# Altium footprint library REF1930AIDDCR.PcbLib: 3 footprints
Each footprint in its own frame and in the unit in brackets; x right, y up, seen from the top. Pads: shape width x height; smd on the part's side, far side on the other; paste and mask are expansions set on the pad; w line width, h text height; cw(c..) or ccw(c..) is an arc to the next point about the centre after c.
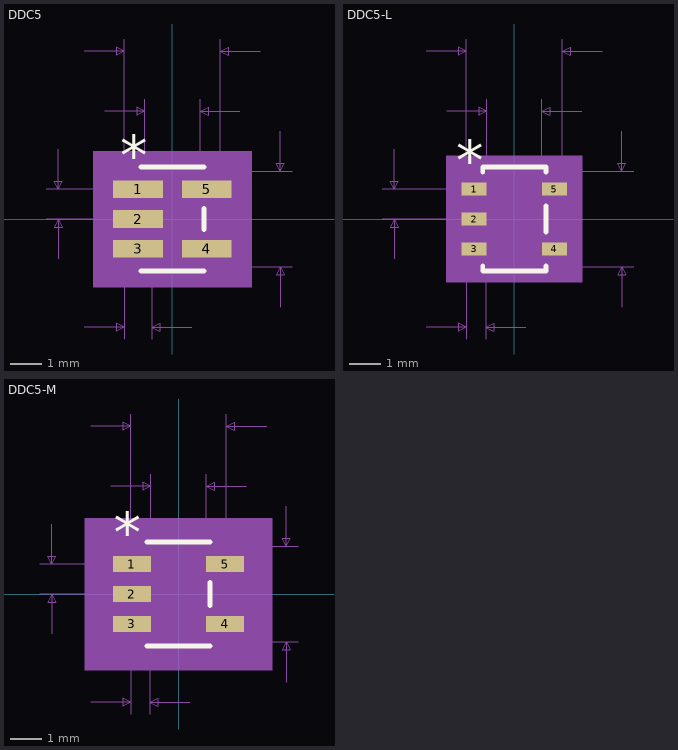
[diagram p0: the footprints below, top view; thin cyan lines are the x and y axes]

## DDC5 [mil]
pads (5):
  rect 62x22 smd paste+0 mask+0: 1(-43,37.4) 2(-43,0) 3(-43,-37.4) 4(43,-37.4) 5(43,37.4)
Top Overlay:
  lines w6: -39.5,-65 39.5,-65 ; -39.5,65 39.5,65 ; 39.5,-13.3 39.5,13.3
  text "*" at -65.5,54.4 h50
Mechanical 5:
  region: 99,-85 -99,-85 -99,85 99,85
Mechanical 7:
  lines w1: -158,0 -43,0 ; -158,37.4 -43,37.4 ; -143,-50 -143,0 ; -143,87.4 -143,37.4 ; -110,-135 -60,-135 ; -110,210 -60,210 ; -84.5,135 -34.5,135 ; -60,-150 -60,0 -60,225 ; -34.5,0 -34.5,150 ; -26,-150 -26,0 ; 0,-60 149.5,-60 ; 0,60 149.5,60 ; 24,-135 -26,-135 ; 34.5,0 34.5,150 ; 60,0 60,225 ; 84.5,135 34.5,135 ; 110,210 60,210 ; 134.5,-110 134.5,-60 ; 134.5,110 134.5,60 ; -143,0 -148,-10 -138,-10 -143,0 ; -143,37.4 -148,47.4 -138,47.4 -143,37.4 ; -60,-135 -70,-130 -70,-140 -60,-135 ; -60,210 -70,215 -70,205 -60,210 ; -34.5,135 -44.5,140 -44.5,130 -34.5,135 ; -26,-135 -16,-130 -16,-140 -26,-135 ; 34.5,135 44.5,140 44.5,130 34.5,135 ; 60,210 70,215 70,205 60,210 ; 134.5,-60 129.5,-70 139.5,-70 134.5,-60 ; 134.5,60 129.5,70 139.5,70 134.5,60
  text "Default Padstyle: RX62Y22D0T" at -350,-260 h50
  text "Pin 1 Padstyle: RX62Y22D0T" at -325,-320 h50
  text "Alt 1 Padstyle: OX60Y90D30P" at -337.5,-500 h50
  text "Alt 2 Padstyle: OX90Y60D30P" at -337.5,-560 h50
  text "0.069in/1.753mm" at -93.75,155 h25
  text "0.12in/3.048mm" at -87.5,230 h25
  text "0.12in/3.048mm" at 154.5,-12.5 h25
  text "0.037in/0.95mm" at -338,6.2 h25
  text "0.024in/0.61mm" at -130.5,-180 h25
Mechanical 13:
  lines w0: -12,60 ccw(c0,60) 12,60
  lines w1: -60,-47.4 -60,-27.4 -34.5,-27.4 -34.5,-47.4 -60,-47.4 ; -60,-10 -60,10 -34.5,10 -34.5,-10 -60,-10 ; -60,27.4 -60,47.4 -34.5,47.4 -34.5,27.4 -60,27.4 ; -34.5,-60 34.5,-60 34.5,60 -34.5,60 -34.5,-60 ; 34.5,-47.4 34.5,-27.4 60,-27.4 60,-47.4 34.5,-47.4 ; 34.5,27.4 34.5,47.4 60,47.4 60,27.4 34.5,27.4
  text "*" at -37,16.4 h50
Mechanical 15:
  region: 44.5,-70 -44.5,-70 -44.5,-58.4 -84,-58.4 -84,58.4 -44.5,58.4 -44.5,70 44.5,70 44.5,58.4 84,58.4 84,-58.4 44.5,-58.4
  lines w6: -84,-58.4 -44.5,-58.4 -44.5,-70 44.5,-70 44.5,-58.4 84,-58.4 84,58.4 44.5,58.4 44.5,70 -44.5,70 -44.5,58.4 -84,58.4 -84,-58.4
3D body: height 10, standoff 0, extent 0,0 10,10

## DDC5-L [mil]
pads (5):
  rect 31.5x16 smd paste+0 mask+0: 1(-50.25,37.4) 2(-50.25,0) 3(-50.25,-37.4) 4(50.25,-37.4) 5(50.25,37.4)
Top Overlay:
  lines w6: -39.5,-58.5 -39.5,-65 39.5,-65 39.5,-58.5 ; -39.5,58.5 -39.5,65 39.5,65 39.5,58.5 ; 39.5,-16.3 39.5,16.3
  text "*" at -72.75,48.4 h50
Mechanical 5:
  region: 85,-79 -85,-79 -85,79 85,79
Mechanical 7:
  lines w1: -165.25,0 -50.25,0 ; -165.25,37.4 -50.25,37.4 ; -150.25,-50 -150.25,0 ; -150.25,87.4 -150.25,37.4 ; -110,-135 -60,-135 ; -110,210 -60,210 ; -84.5,135 -34.5,135 ; -60,-150 -60,0 -60,225 ; -36,-150 -36,0 ; -34.5,0 -34.5,150 ; 0,-60 149.5,-60 ; 0,60 149.5,60 ; 14,-135 -36,-135 ; 34.5,0 34.5,150 ; 60,0 60,225 ; 84.5,135 34.5,135 ; 110,210 60,210 ; 134.5,-110 134.5,-60 ; 134.5,110 134.5,60 ; -150.25,0 -155.25,-10 -145.25,-10 -150.25,0 ; -150.25,37.4 -155.25,47.4 -145.25,47.4 -150.25,37.4 ; -60,-135 -70,-130 -70,-140 -60,-135 ; -60,210 -70,215 -70,205 -60,210 ; -36,-135 -26,-130 -26,-140 -36,-135 ; -34.5,135 -44.5,140 -44.5,130 -34.5,135 ; 34.5,135 44.5,140 44.5,130 34.5,135 ; 60,210 70,215 70,205 60,210 ; 134.5,-60 129.5,-70 139.5,-70 134.5,-60 ; 134.5,60 129.5,70 139.5,70 134.5,60
  text "Default Padstyle: RX31p5Y16D0T" at -375,-260 h50
  text "Pin 1 Padstyle: RX31p5Y16D0T" at -350,-320 h50
  text "Alt 1 Padstyle: OX60Y90D30P" at -337.5,-500 h50
  text "Alt 2 Padstyle: OX90Y60D30P" at -337.5,-560 h50
  text "0.069in/1.753mm" at -93.75,155 h25
  text "0.12in/3.048mm" at -87.5,230 h25
  text "0.12in/3.048mm" at 154.5,-12.5 h25
  text "0.037in/0.95mm" at -345.25,6.2 h25
  text "0.024in/0.61mm" at -135.5,-180 h25
Mechanical 13:
  lines w0: -12,60 ccw(c0,60) 12,60
  lines w1: -60,-47.4 -60,-27.4 -34.5,-27.4 -34.5,-47.4 -60,-47.4 ; -60,-10 -60,10 -34.5,10 -34.5,-10 -60,-10 ; -60,27.4 -60,47.4 -34.5,47.4 -34.5,27.4 -60,27.4 ; -34.5,-60 34.5,-60 34.5,60 -34.5,60 -34.5,-60 ; 34.5,-47.4 34.5,-27.4 60,-27.4 60,-47.4 34.5,-47.4 ; 34.5,27.4 34.5,47.4 60,47.4 60,27.4 34.5,27.4
  text "*" at -37,10.4 h50
Mechanical 15:
  region: 38.5,-64 -38.5,-64 -38.5,-49.4 -70,-49.4 -70,49.4 -38.5,49.4 -38.5,64 38.5,64 38.5,49.4 70,49.4 70,-49.4 38.5,-49.4
  lines w6: -70,-49.4 -38.5,-49.4 -38.5,-64 38.5,-64 38.5,-49.4 70,-49.4 70,49.4 38.5,49.4 38.5,64 -38.5,64 -38.5,49.4 -70,49.4 -70,-49.4
3D body: height 10, standoff 0, extent 0,0 10,10

## DDC5-M [mil]
pads (5):
  rect 47.5x20 smd paste+0 mask+0: 1(-58.25,37.4) 2(-58.25,0) 3(-58.25,-37.4) 4(58.25,-37.4) 5(58.25,37.4)
Top Overlay:
  lines w6: -39.5,-65 39.5,-65 ; -39.5,65 39.5,65 ; 39.5,-14.3 39.5,14.3
  text "*" at -80.75,52.4 h50
Mechanical 5:
  region: 117,-95 -117,-95 -117,95 117,95
Mechanical 7:
  lines w1: -173.25,0 -58.25,0 ; -173.25,37.4 -58.25,37.4 ; -158.25,-50 -158.25,0 ; -158.25,87.4 -158.25,37.4 ; -110,-135 -60,-135 ; -110,210 -60,210 ; -84.5,135 -34.5,135 ; -60,-150 -60,0 -60,225 ; -36,-150 -36,0 ; -34.5,0 -34.5,150 ; 0,-60 149.5,-60 ; 0,60 149.5,60 ; 14,-135 -36,-135 ; 34.5,0 34.5,150 ; 60,0 60,225 ; 84.5,135 34.5,135 ; 110,210 60,210 ; 134.5,-110 134.5,-60 ; 134.5,110 134.5,60 ; -158.25,0 -163.25,-10 -153.25,-10 -158.25,0 ; -158.25,37.4 -163.25,47.4 -153.25,47.4 -158.25,37.4 ; -60,-135 -70,-130 -70,-140 -60,-135 ; -60,210 -70,215 -70,205 -60,210 ; -36,-135 -26,-130 -26,-140 -36,-135 ; -34.5,135 -44.5,140 -44.5,130 -34.5,135 ; 34.5,135 44.5,140 44.5,130 34.5,135 ; 60,210 70,215 70,205 60,210 ; 134.5,-60 129.5,-70 139.5,-70 134.5,-60 ; 134.5,60 129.5,70 139.5,70 134.5,60
  text "Default Padstyle: RX47p5Y20D0T" at -375,-260 h50
  text "Pin 1 Padstyle: RX47p5Y20D0T" at -350,-320 h50
  text "Alt 1 Padstyle: OX60Y90D30P" at -337.5,-500 h50
  text "Alt 2 Padstyle: OX90Y60D30P" at -337.5,-560 h50
  text "0.069in/1.753mm" at -93.75,155 h25
  text "0.12in/3.048mm" at -87.5,230 h25
  text "0.12in/3.048mm" at 154.5,-12.5 h25
  text "0.037in/0.95mm" at -353.25,6.2 h25
  text "0.024in/0.61mm" at -135.5,-180 h25
Mechanical 13:
  lines w0: -12,60 ccw(c0,60) 12,60
  lines w1: -60,-47.4 -60,-27.4 -34.5,-27.4 -34.5,-47.4 -60,-47.4 ; -60,-10 -60,10 -34.5,10 -34.5,-10 -60,-10 ; -60,27.4 -60,47.4 -34.5,47.4 -34.5,27.4 -60,27.4 ; -34.5,-60 34.5,-60 34.5,60 -34.5,60 -34.5,-60 ; 34.5,-47.4 34.5,-27.4 60,-27.4 60,-47.4 34.5,-47.4 ; 34.5,27.4 34.5,47.4 60,47.4 60,27.4 34.5,27.4
  text "*" at -37,14.4 h50
Mechanical 15:
  region: 54.5,-80 -54.5,-80 -54.5,-67.4 -102,-67.4 -102,67.4 -54.5,67.4 -54.5,80 54.5,80 54.5,67.4 102,67.4 102,-67.4 54.5,-67.4
  lines w6: -102,-67.4 -54.5,-67.4 -54.5,-80 54.5,-80 54.5,-67.4 102,-67.4 102,67.4 54.5,67.4 54.5,80 -54.5,80 -54.5,67.4 -102,67.4 -102,-67.4
3D body: height 10, standoff 0, extent 0,0 10,10